# EAGLE library part VNC2-64Q1B (library FTDI_By_element14_Batch_1)
Embedded Dual USB Host Controller
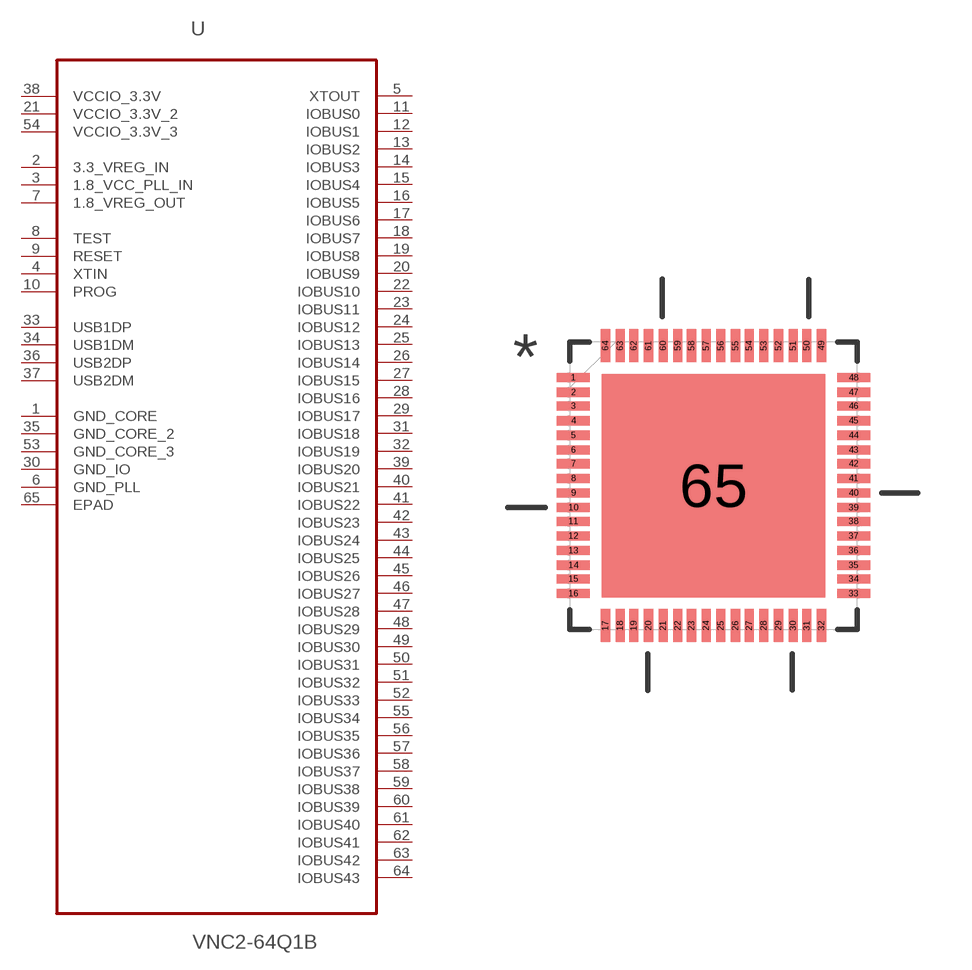
[diagram p5: symbol with the pads of QFN40P800X800X100-65N; footprint QFN40P800X800X100-65N]

Designator prefix U

## VNC2-64Q1B (MPN: VNC2-64Q1B; OC_FARNELL: 1863859; OC_NEWARK: 27T5923; PACKAGE: QFN-64; SUPPLIER: FTDI)  [QFN40P800X800X100-65N]
1  GND_CORE  pas
2  3.3_VREG_IN  pwr
3  1.8_VCC_PLL_IN  pwr
4  XTIN  in
5  XTOUT  out
6  GND_PLL  pas
7  1.8_VREG_OUT  pwr
8  TEST  in
9  RESET  in
10  PROG  in
11  IOBUS0
12  IOBUS1
13  IOBUS2
14  IOBUS3
15  IOBUS4
16  IOBUS5
17  IOBUS6
18  IOBUS7
19  IOBUS8
20  IOBUS9
21  VCCIO_3.3V_2  pwr
22  IOBUS10
23  IOBUS11
24  IOBUS12
25  IOBUS13
26  IOBUS14
27  IOBUS15
28  IOBUS16
29  IOBUS17
30  GND_IO  pas
31  IOBUS18
32  IOBUS19
33  USB1DP
34  USB1DM
35  GND_CORE_2  pas
36  USB2DP
37  USB2DM
38  VCCIO_3.3V  pwr
39  IOBUS20
40  IOBUS21
41  IOBUS22
42  IOBUS23
43  IOBUS24
44  IOBUS25
45  IOBUS26
46  IOBUS27
47  IOBUS28
48  IOBUS29
49  IOBUS30
50  IOBUS31
51  IOBUS32
52  IOBUS33
53  GND_CORE_3  pas
54  VCCIO_3.3V_3  pwr
55  IOBUS34
56  IOBUS35
57  IOBUS36
58  IOBUS37
59  IOBUS38
60  IOBUS39
61  IOBUS40
62  IOBUS41
63  IOBUS42
64  IOBUS43
65  EPAD  pas

## Footprint QFN40P800X800X100-65N (pad centres in mm)
smd 0.914 x 0.254: 1 -3.886,2.997; 2 -3.886,2.591; 3 -3.886,2.21; 4 -3.886,1.803; 5 -3.886,1.397; 6 -3.886,0.991; 7 -3.886,0.61; 8 -3.886,0.203; 9 -3.886,-0.203; 10 -3.886,-0.61; 11 -3.886,-0.991; 12 -3.886,-1.397; 13 -3.886,-1.803; 14 -3.886,-2.21; 15 -3.886,-2.591; 16 -3.886,-2.997; 33 3.886,-2.997; 34 3.886,-2.591; 35 3.886,-2.21; 36 3.886,-1.803; 37 3.886,-1.397; 38 3.886,-0.991; 39 3.886,-0.61; 40 3.886,-0.203; 41 3.886,0.203; 42 3.886,0.61; 43 3.886,0.991; 44 3.886,1.397; 45 3.886,1.803; 46 3.886,2.21; 47 3.886,2.591; 48 3.886,2.997
smd 0.254 x 0.914: 17 -2.997,-3.886; 18 -2.591,-3.886; 19 -2.21,-3.886; 20 -1.803,-3.886; 21 -1.397,-3.886; 22 -0.991,-3.886; 23 -0.61,-3.886; 24 -0.203,-3.886; 25 0.203,-3.886; 26 0.61,-3.886; 27 0.991,-3.886; 28 1.397,-3.886; 29 1.803,-3.886; 30 2.21,-3.886; 31 2.591,-3.886; 32 2.997,-3.886; 49 2.997,3.886; 50 2.591,3.886; 51 2.21,3.886; 52 1.803,3.886; 53 1.397,3.886; 54 0.991,3.886; 55 0.61,3.886; 56 0.203,3.886; 57 -0.203,3.886; 58 -0.61,3.886; 59 -0.991,3.886; 60 -1.397,3.886; 61 -1.803,3.886; 62 -2.21,3.886; 63 -2.591,3.886; 64 -2.997,3.886
smd 6.198 x 6.198: 65 0,0